# Altium schematic symbol library Triodes.SchLib: 3 symbols
Pins are listed as number, name and electrical type; pins without a type are passive.

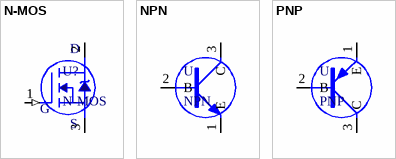
[diagram p0: symbols N-MOS to PNP]

## N-MOS
designator U?
footprint LC-TO-252-2
pins: 1 GATE (in), 2 DRAIN, 3 SOURCE
text: D; G; S

## NPN
designator U
footprint LC-SOT-23(SOT-23-3)
pins: 1 E, 2 B, 3 C

## PNP
designator U
footprint LC-SOT-23(SOT-23-3)
pins: 1 E, 2 B, 3 C